# EAGLE library part RN4020 (library BB8)
Bluetooth module
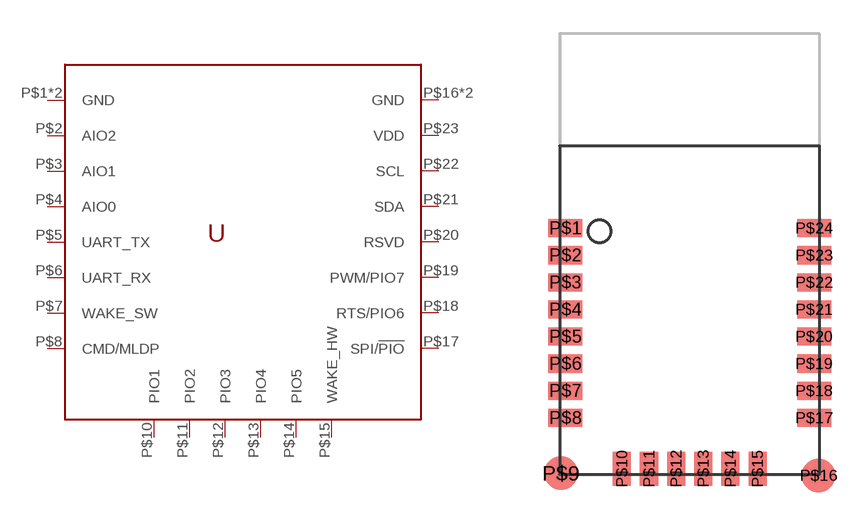
[diagram p5: symbol with the pads of RN4020; footprint RN4020]

Designator prefix U

## RN4020RN4020  [RN4020]
P$1  GND  pwr
P$2  AIO2
P$3  AIO1
P$4  AIO0
P$5  UART_TX  out
P$6  UART_RX  in
P$7  WAKE_SW  in
P$8  CMD/MLDP  in
P$9  GND  pwr
P$10  PIO1
P$11  PIO2
P$12  PIO3
P$13  PIO4
P$14  PIO5
P$15  WAKE_HW
P$16  GND  pwr
P$17  SPI/!PIO  in
P$18  RTS/PIO6
P$19  PWM/PIO7
P$20  RSVD  nc
P$21  SDA
P$22  SCL
P$23  VDD  pwr
P$24  GND  pwr

## Footprint RN4020 (pad centres in mm)
Footprint for the Microchip RN4020 This footprint has omitted the ground pads on pins 9 and 16. -Alex Marcellus
smd 1.5 x 0.8: P$1 -5.5,1.15; P$2 -5.5,-0.05; P$3 -5.5,-1.25; P$4 -5.5,-2.45; P$5 -5.5,-3.65; P$6 -5.5,-4.85; P$7 -5.5,-6.05; P$8 -5.5,-7.25; P$17 5.5,-7.25; P$18 5.5,-6.05; P$19 5.5,-4.85; P$20 5.5,-3.65; P$21 5.5,-2.45; P$22 5.5,-1.25; P$23 5.5,-0.05; P$24 5.5,1.15
smd 1.5 x 1.5: P$9 -5.7,-9.7; P$16 5.7,-9.8
smd 0.8 x 1.5: P$10 -3,-9.5; P$11 -1.8,-9.5; P$12 -0.6,-9.5; P$13 0.6,-9.5; P$14 1.8,-9.5; P$15 3,-9.5